# EAGLE library part MCP25625T-E/ML (library Display_Custom)
None
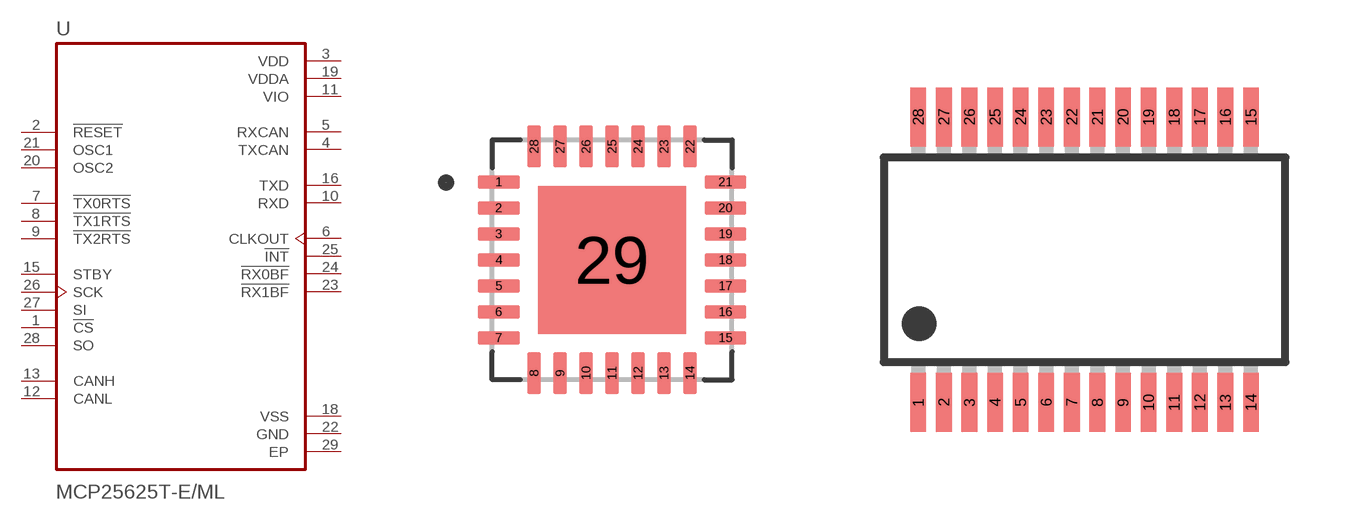
[diagram p2: symbol with the pads of QFN65P600X600X100-29N; footprints QFN65P600X600X100-29N, SSOP28]

Designator prefix U

## MCP25625T-E/ML (AVAILABILITY: Unavailable; DESCRIPTION: IC TXRX CAN CTLR EXT TEMP 28QFN; MF: Microchip; MP: MCP25625T-E/ML; PACKAGE: QFN-28 Microchip; PRICE: 2.19 USD)  [QFN65P600X600X100-29N]
1  !CS  in
2  !RESET  in
3  VDD  pwr
4  TXCAN  out
5  RXCAN  in
6  CLKOUT  out
7  !TX0RTS  in
8  !TX1RTS  in
9  !TX2RTS  in
10  RXD  out
11  VIO  pwr
12  CANL
13  CANH
15  STBY  in
16  TXD  in
18  VSS  pwr
19  VDDA  pwr
20  OSC2  out
21  OSC1  in
22  GND  pwr
23  !RX1BF  out
24  !RX0BF  out
25  !INT  out
26  SCK  in
27  SI  in
28  SO  out
29  EP  pwr

## MCP25625T-E/MLSSOP  [SSOP28]
1  VIO  pwr
2  EP  pwr
3  CANL
4  CANH
5  STBY  in
6  !TX1RTS  in
7  !TX2RTS  in
8  OSC2  out
9  OSC1  in
10  GND  pwr
11  !RX1BF  out
12  !RX0BF  out
13  !INT  out
14  SCK  in
15  SI  in
16  SO  out
17  !CS  in
18  !RESET  in
19  VDD  pwr
20  TXCAN  out
21  RXCAN  in
22  CLKOUT  out
23  !TX0RTS  in
24  TXD  in
25  EP  pwr
26  VSS  pwr
27  VDDA  pwr
28  RXD  out

## Footprint QFN65P600X600X100-29N (pad centres in mm)
smd 1.04 x 0.33: 1 -2.835,1.95; 2 -2.835,1.3; 3 -2.835,0.65; 4 -2.835,0; 5 -2.835,-0.65; 6 -2.835,-1.3; 7 -2.835,-1.95; 15 2.835,-1.95; 16 2.835,-1.3; 17 2.835,-0.65; 18 2.835,0; 19 2.835,0.65; 20 2.835,1.3; 21 2.835,1.95
smd 0.33 x 1.04: 8 -1.95,-2.835; 9 -1.3,-2.835; 10 -0.65,-2.835; 11 0,-2.835; 12 0.65,-2.835; 13 1.3,-2.835; 14 1.95,-2.835; 22 1.95,2.835; 23 1.3,2.835; 24 0.65,2.835; 25 0,2.835; 26 -0.65,2.835; 27 -1.3,2.835; 28 -1.95,2.835
smd 3.7 x 3.7: 29 0,0

## Footprint SSOP28 (pad centres in mm)
Shrink Small Outline Package SSOP-28
smd 0.4 x 1.5: 1 -4.225,-3.625; 2 -3.575,-3.625; 3 -2.925,-3.625; 4 -2.275,-3.625; 5 -1.625,-3.625; 6 -0.975,-3.625; 7 -0.325,-3.625; 8 0.325,-3.625; 9 0.975,-3.625; 10 1.625,-3.625; 11 2.275,-3.625; 12 2.925,-3.625; 13 3.575,-3.625; 14 4.225,-3.625; 15 4.225,3.625; 16 3.575,3.625; 17 2.925,3.625; 18 2.275,3.625; 19 1.625,3.625; 20 0.975,3.625; 21 0.325,3.625; 22 -0.325,3.625; 23 -0.975,3.625; 24 -1.625,3.625; 25 -2.275,3.625; 26 -2.925,3.625; 27 -3.575,3.625; 28 -4.225,3.625